# Altium schematic symbol library LMR33630CRNX.Schlib: 1 symbol
Pins are listed as number, name and electrical type; pins without a type are passive.

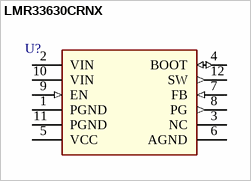
[diagram p0: symbol LMR33630CRNX]

## LMR33630CRNX
designator U?
LMR33630 SIMPLE SWITCHER® 3.8-V to 36-V, 3-A / Synchronous Step-down Voltage Converter
pins: 1 PGND (power), 2 VIN (power), 3 NC, 4 BOOT (io), 5 VCC (power), 6 AGND (power), 7 FB (in), 8 PG (out), 9 EN (in), 10 VIN (power), 11 PGND (power), 12 SW (out)